# Altium schematic symbol library P7805-500.SchLib: 1 symbol
Pins are listed as number, name and electrical type; pins without a type are passive.

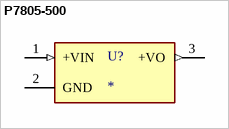
[diagram p0: symbol P7805-500]

## P7805-500
designator U?
MP: P7805-500; Availability: Unavailable; Price: None; Value: *; Package: None
footprint CONV_P7805-500
pins: 1 +VIN (in), 2 GND (power), 3 +VO (out)